# EAGLE library part DMN2215UDM-7 (library DMN2215UDM-7)
Diodes Inc DMN2215UDM-7 Dual N-channel MOSFET Transistor, 2 A, 20 V, 6-Pin SOT-26 Source: Datasheet <https://www.diodes.com/assets/Datasheets/ds31176.pdf>
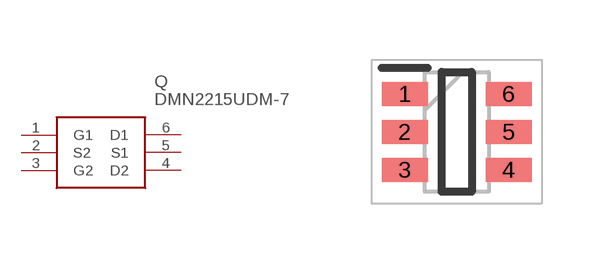
[diagram p0: symbol with the pads of SOT95P285X140-6N; footprint SOT95P285X140-6N]

Designator prefix Q

## DMN2215UDM-7 (Allied_Number: 70438070; Allied_Price-Stock: https://www.alliedelec.com/diodesinc-dmn2215udm-7/70438070/; Description: Diodes Inc DMN2215UDM-7 Dual N-channel MOSFET Transistor, 2 A, 20 V, 6-Pin SOT-26; Height: 1.4mm; Manufacturer_Name: Diodes Inc.; Manufacturer_Part_Number: DMN2215UDM-7; Mouser_Part_Number: 621-DMN2215UDM-7; Mouser_Price-Stock: https://www.mouser.co.uk/ProductDetail/Diodes-Incorporated/DMN2215UDM-7?qs=ptj1V1atRArXZWZ7Y9ryoQ%3D%3D; RS_Part_Number: 7514152P; RS_Price-Stock: http://uk.rs-online.com/web/p/products/7514152P)  [SOT95P285X140-6N]
1  G1
2  S2
3  G2
4  D2
5  S1
6  D1

## Footprint SOT95P285X140-6N (pad centres in mm)
SOT26_11
smd 1.15 x 0.6: 1 -1.3,0.95; 2 -1.3,0; 3 -1.3,-0.95; 4 1.3,-0.95; 5 1.3,0; 6 1.3,0.95